# EAGLE library part LT1076CR#PBF (library LT1076CR)
LT1076CR#PBF, Switching Regulator, Buck Controller, 10A, Adjustable, 2.5 50 V, 110 kHz, 8-Pin D2PAK <https://componentsearchengine.com/Images/3/LT1076CR%23PBF.jpg> Source: Datasheet <http://docs-europe.electrocomponents.com/webdocs/10ed/0900766b810ed824.pdf>
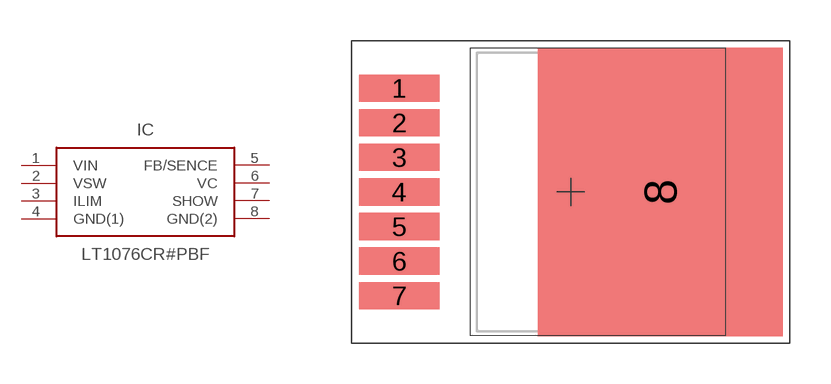
[diagram p0: symbol with the pads of TO127P1394X457-8N; footprint TO127P1394X457-8N]

Designator prefix IC

## LT1076CR#PBF (Description: LT1076CR#PBF, Switching Regulator, Buck Controller, 10A, Adjustable, 2.5 50 V, 110 kHz, 8-Pin D2PAK; Height: 4.572mm; Manufacturer_Name: Linear Technology; Manufacturer_Part_Number: LT1076CR#PBF; RS_Part_Number: 5455225; Supplier_Name: RS)  [TO127P1394X457-8N]
1  VIN  in
2  VSW  pas
3  ILIM  pas
4  GND(1)  pwr
5  FB/SENCE  pas
6  VC  pas
7  SHOW  pas
8  GND(2)  pwr

## Footprint TO127P1394X457-8N (pad centres in mm)
R(DDPAK)
smd 2.95 x 1: 1 -6.3,3.81; 2 -6.3,2.54; 3 -6.3,1.27; 4 -6.3,0; 5 -6.3,-1.27; 6 -6.3,-2.54; 7 -6.3,-3.81
smd 9 x 10.6: 8 3.3,0